# EAGLE library part DPNO-107-2-A-G (library relay-pickering)
DPST Relay TTL SIL Pickering 107-2-A series TTL drive (6 of 7 pin SIL)
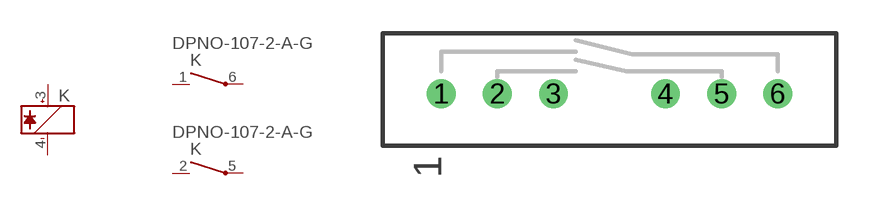
[diagram p3: symbol with the pads of 1072A; footprint 1072A]

Designator prefix K; gates G$1=RELAY-COIL G$2=SPNO-CONTACT G$3=SPNO-CONTACT

## DPNO-107-2-A-G  [1072A]
1  G$2:NO  pas
2  G$3:NO  pas
3  G$1:+  pas
4  G$1:-  pas
5  G$3:C  pas
6  G$2:C  pas

## Footprint 1072A (pad centres in mm)
DPST Relay TTL SIL Pickering 107-2-A series TTL drive (6 of 7 pin SIL)
drill 0.8 pad 1.3 round: 1 -7.62,0; 2 -5.08,0; 3 -2.54,0; 4 2.54,0; 5 5.08,0; 6 7.62,0